# EAGLE library part ACSL-6310 (library PACKAGES FOR TEST BOARDS)
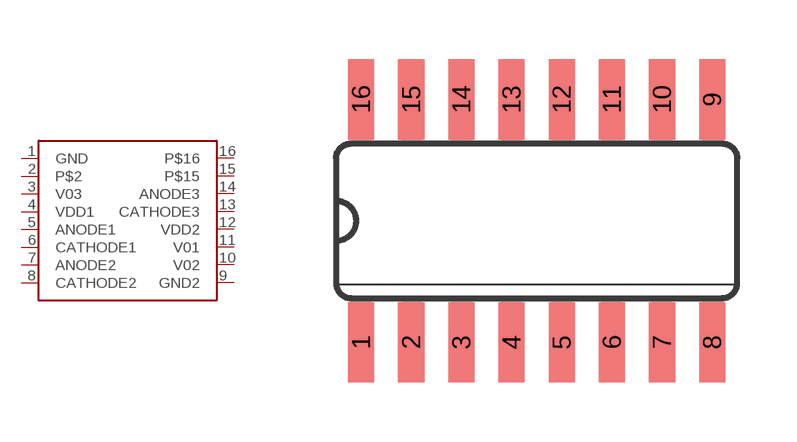
[diagram p2: symbol with the pads of SO16; footprint SO16]

Designator prefix -

## ACSL-6310  [SO16]
1  GND  out
2  P$2  out
3  V03  out
4  VDD1  out
5  ANODE1  out
6  CATHODE1  out
7  ANODE2  out
8  CATHODE2  out
9  GND2  out
10  V02  out
11  V01  out
12  VDD2  out
13  CATHODE3  out
14  ANODE3  out
15  P$15  out
16  P$16  out

## Footprint SO16 (pad centres in mm)
Small Outline package 150 mil
smd 0.66 x 2.032: 1 -4.445,-3.073; 2 -3.175,-3.073; 3 -1.905,-3.073; 4 -0.635,-3.073; 5 0.635,-3.073; 6 1.905,-3.073; 7 3.175,-3.073; 8 4.445,-3.073; 9 4.445,3.073; 10 3.175,3.073; 11 1.905,3.073; 12 0.635,3.073; 13 -0.635,3.073; 14 -1.905,3.073; 15 -3.175,3.073; 16 -4.445,3.073